# EAGLE library part MIC2876-5.0YMT-TR (library MIC2876-5.0YMT-TR)
Switching Voltage Regulators Source: Datasheet <https://componentsearchengine.com/Datasheets/1/MIC2876-5.0YMT-TR.pdf>
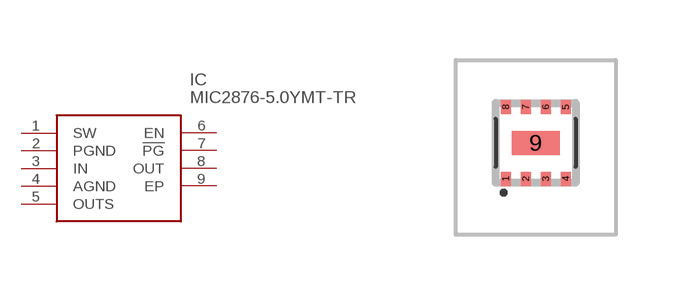
[diagram p0: symbol with the pads of MIC287650YMTTR; footprint MIC287650YMTTR]

Designator prefix IC

## MIC2876-5.0YMT-TR (Arrow_Part_Number: MIC2876-5.0YMT-TR; Arrow_Price-Stock: https://www.arrow.com/en/products/mic2876-5.0ymt-tr/microchip-technology?region=nac; Description: Switching Voltage Regulators; Height: 0.6mm; Manufacturer_Name: Microchip; Manufacturer_Part_Number: MIC2876-5.0YMT-TR; Mouser_Part_Number: 998-MIC2876-50YMTTR; Mouser_Price-Stock: https://www.mouser.co.uk/ProductDetail/Microchip-Technology/MIC2876-5.0YMT-TR?qs=Y3Q3JoKAO1ROB46ffRMt%252BQ%3D%3D)  [MIC287650YMTTR]
1  SW
2  PGND
3  IN
4  AGND
5  OUTS
6  EN
7  !PG
8  OUT
9  EP

## Footprint MIC287650YMTTR (pad centres in mm)
MIC2876-5.0YMT-TR-2
smd 0.25 x 0.35: 1 -0.75,-0.9; 2 -0.25,-0.9; 3 0.25,-0.9; 4 0.75,-0.9; 5 0.75,0.9; 6 0.25,0.9; 7 -0.25,0.9; 8 -0.75,0.9
smd 1.2 x 0.6: 9 0,0